# EAGLE library part WATN001002BF (library SparkFun-Connectors-fdb4deb3ddf02d02cecaec8c0f5c972a585683b1)
connector for 10x2 16-segment E-paper Display (LCD-10150) ***Unproven!!!***
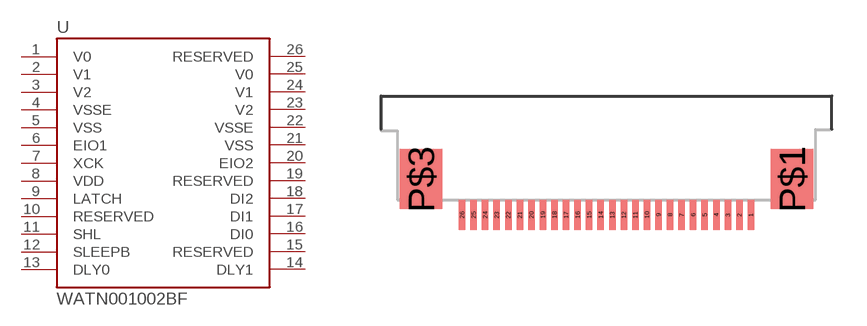
[diagram p61: symbol with the pads of FFC26; footprint FFC26]

Designator prefix U

## WATN001002BF  [FFC26]
1  V0
2  V1
3  V2
4  VSSE
5  VSS
6  EIO1
7  XCK
8  VDD
9  LATCH
10  RESERVED
11  SHL
12  SLEEPB
13  DLY0
14  DLY1
15  RESERVED
16  DI0
17  DI1
18  DI2
19  RESERVED
20  EIO2
21  VSS
22  VSSE
23  V2
24  V1
25  V0
26  RESERVED

## Footprint FFC26 (pad centres in mm)
26-pin FFC connector See 4UCONN part #08630
smd 0.28 x 1.3: 1 6.25,0; 2 5.75,0; 3 5.25,0; 4 4.75,0; 5 4.25,0; 6 3.75,0; 7 3.25,0; 8 2.75,0; 9 2.25,0; 10 1.75,0; 11 1.25,0; 12 0.75,0; 13 0.25,0; 14 -0.25,0; 15 -0.75,0; 16 -1.25,0; 17 -1.75,0; 18 -2.25,0; 19 -2.75,0; 20 -3.25,0; 21 -3.75,0; 22 -4.25,0; 23 -4.75,0; 24 -5.25,0; 25 -5.75,0; 26 -6.25,0
smd 1.85 x 2.6: P$1 8.025,1.55; P$3 -8.025,1.55